# EAGLE library part MMBZ5245BTS-7-F (library HyTechDevices)
Zener Diode Array 3 Independent
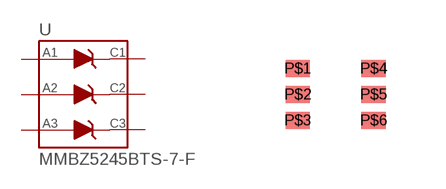
[diagram p117: symbol with the pads of SOT363; footprint SOT363]

Designator prefix -

## MMBZ5245BTS-7-F  [SOT363]
P$1  A1
P$2  A2
P$3  A3
P$4  C1
P$5  C2
P$6  C3

## Footprint SOT363 (pad centres in mm)
SOT363 Package
smd 0.61 x 0.432: P$1 -0.965,0.673; P$2 -0.965,0.023; P$3 -0.965,-0.627; P$4 0.93,0.673; P$5 0.93,0.023; P$6 0.93,-0.627